# Altium footprint library PCB_PCB恒温加热台 copy_2022-02-27.PcbLib: 26 footprints (part 2 of 2)
Each footprint in its own frame and in the unit in brackets; x right, y up, seen from the top. Pads: shape width x height; smd on the part's side, far side on the other; paste and mask are expansions set on the pad; w line width, h text height; cw(c..) or ccw(c..) is an arc to the next point about the centre after c.
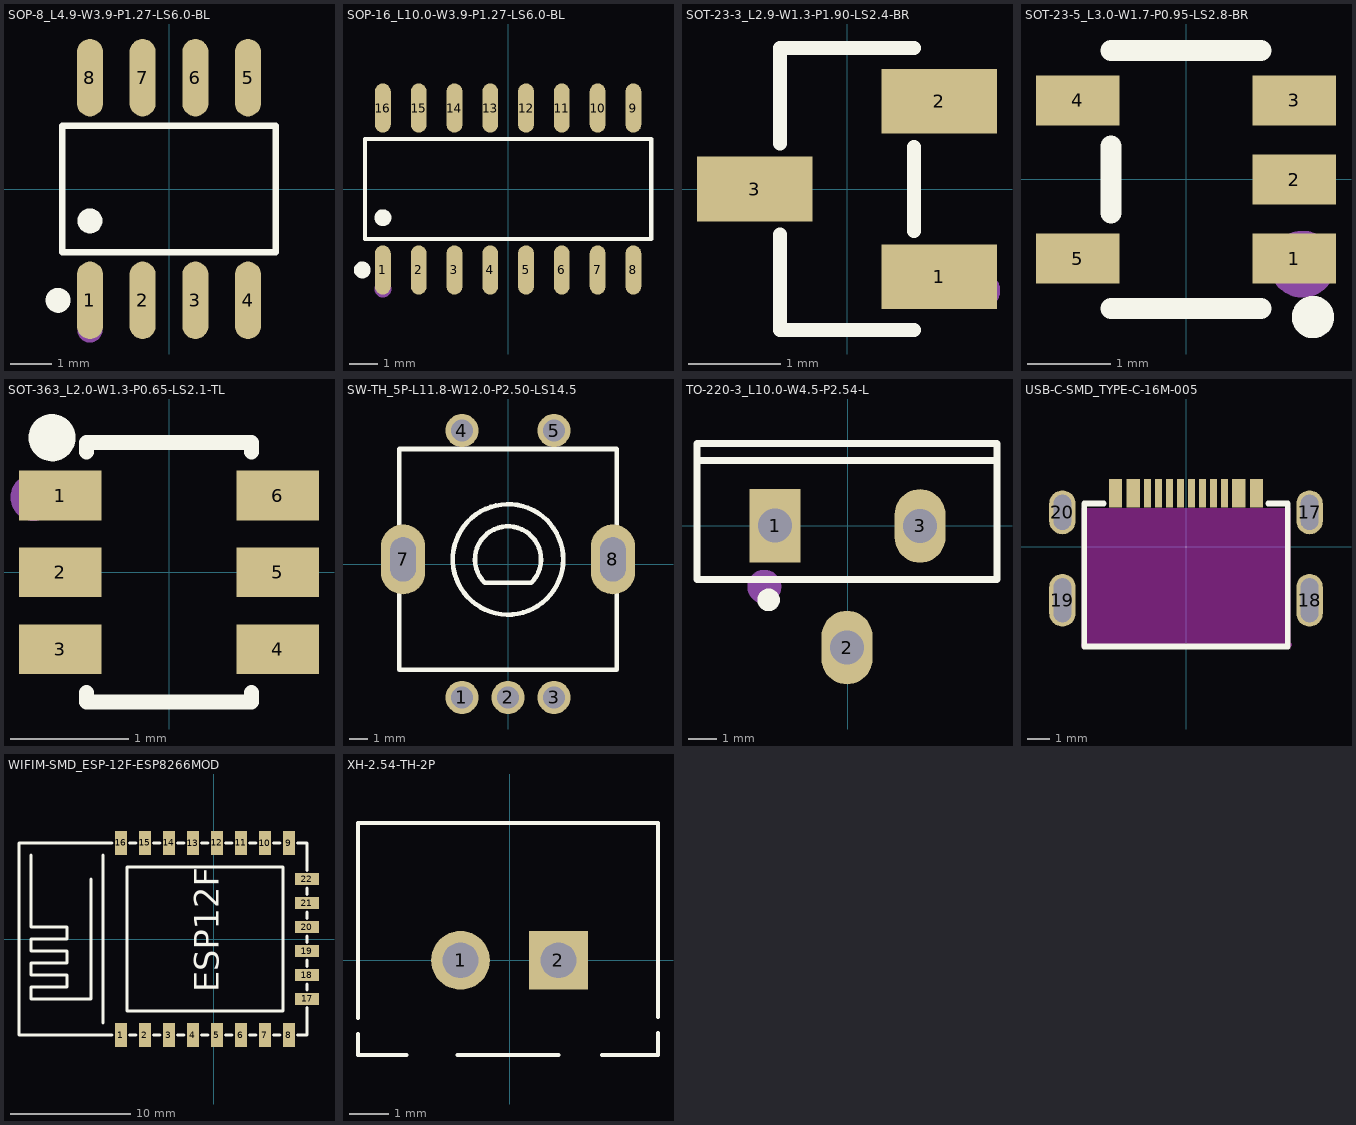
[diagram p1: the footprints below, top view; thin cyan lines are the x and y axes]

## SOP-8_L4.9-W3.9-P1.27-LS6.0-BL [mm]
pads (8):
  oval 0.63x1.865 smd: 1(-1.905,-2.682) 2(-0.635,-2.682) 3(0.635,-2.682) 4(1.905,-2.682) 5(1.905,2.682) 6(0.635,2.682) 7(-0.635,2.682) 8(-1.905,2.682)
Top Overlay:
  circle w0.3: c-2.672,-2.682 r0.15
  circle w0.3: c-1.905,-0.769 r0.15
  lines w0.152: -2.576,-1.521 2.576,-1.521 2.576,1.521 -2.576,1.521 -2.576,-1.521
Mechanical 15:
  circle w0.3: c-1.905,-3.4 r0.15

## SOP-16_L10.0-W3.9-P1.27-LS6.0-BL [mm]
pads (16):
  oval 0.56x1.745 smd: 1(-4.445,-2.873) 2(-3.175,-2.873) 3(-1.905,-2.873) 4(-0.635,-2.873) 5(0.635,-2.873) 6(1.905,-2.873) 7(3.175,-2.873) 8(4.445,-2.873) 9(4.445,2.873) 10(3.175,2.873) 11(1.905,2.873) 12(0.635,2.873) 13(-0.635,2.873) 14(-1.905,2.873) 15(-3.175,2.873) 16(-4.445,2.873)
Top Overlay:
  circle w0.3: c-5.177,-2.872 r0.15
  circle w0.3: c-4.445,-1.019 r0.15
  lines w0.152: -5.076,-1.771 5.076,-1.771 5.076,1.771 -5.076,1.771 -5.076,-1.771
Mechanical 15:
  circle w0.3: c-4.445,-3.55 r0.15

## SOT-23-3_L2.9-W1.3-P1.90-LS2.4-BR [mm]
pads (3):
  rect 1.25x0.7 smd: 1(1,-0.95) 2(1,0.95) 3(-1,0)
Top Overlay:
  lines w0.152: -0.726,-0.495 -0.726,-1.526 0.726,-1.526 ; -0.726,0.495 -0.726,1.526 0.726,1.526 ; 0.726,-0.455 0.726,0.455
Mechanical 15:
  circle w0.2: c1.46,-1.1 r0.1

## SOT-23-5_L3.0-W1.7-P0.95-LS2.8-BR [mm]
pads (5):
  rect 1x0.6 smd: 1(1.3,-0.95) 2(1.3,0) 3(1.3,0.95) 4(-1.3,0.95) 5(-1.3,-0.95)
Top Overlay:
  circle w0.254: c1.524,-1.651 r0.127
  lines w0.254: -0.9,-1.55 0.9,-1.55 ; -0.9,-0.4 -0.9,0.4 ; -0.9,1.55 0.9,1.55
Mechanical 15:
  circle w0.4: c1.397,-1.016 r0.2

## SOT-363_L2.0-W1.3-P0.65-LS2.1-TL [mm]
pads (6):
  rect 0.7x0.42 smd: 1(-0.92,0.65) 2(-0.92,0) 3(-0.92,-0.65) 4(0.92,-0.65) 5(0.92,0) 6(0.92,0.65)
Top Overlay:
  circle w0.2: c-0.99,1.14 r0.1
  lines w0.127: -0.7,-1.018 -0.7,-1.1 0.7,-1.1 0.7,-1.018 ; -0.7,1.018 -0.7,1.1 0.7,1.1 0.7,1.018
Mechanical 15:
  circle w0.2: c-1.143,0.635 r0.1

## SW-TH_5P-L11.8-W12.0-P2.50-LS14.5 [mm]
pads (7):
  round 1.8 hole 1.2: 1(-2.5,-7.25) 2(0,-7.25) 3(2.5,-7.25) 4(-2.5,7.25) 5(2.5,7.25)
  oval 2.4x3.8 hole 1.4 slot 2.4 at 90 deg: 7(-5.7,0.25) 8(5.7,0.25)
Top Overlay:
  circle w0.254: c0,0.25 r3
  lines w0.254: -5.9,-5.75 -5.9,6.25 5.9,6.25 5.9,-5.75 -5.9,-5.75 ; -1.27,-1.02 cw(c0,0.25) 1.27,-1.02 -1.27,-1.02

## TO-220-3_L10.0-W4.5-P2.54-L [mm]
pads (3):
  rect 1.8x2.6 hole 1.2: 1(-2.56,0.005)
  oval 1.8x2.6 hole 1.2: 2(-0.02,-4.305) 3(2.56,-0.005)
Top Overlay:
  lines w0.254: -5.32,2.305 5.28,2.305 ; -5.321,-1.894 -5.321,2.899 -5.321,2.904 5.281,2.904 5.281,-1.894 -5.321,-1.894
  lines w0.4: -2.79,-2.42 ccw(c-2.789,-2.62) -2.787,-2.42
Mechanical 15:
  circle w0.6: c-2.941,-2.154 r0.3

## USB-C-SMD_TYPE-C-16M-005 [mm]
pads (20):
  oval 1.2x2 hole 0.8 slot 1.6 at 90 deg: 17(5.62,1.563) 20(-5.62,1.563)
  oval 1.2x2.4 hole 0.8 slot 2 at 90 deg: 18(5.62,-2.437) 19(-5.62,-2.437)
  rect 0.3x1.3 smd: A1(-3.35,2.438) A4(-2.55,2.438) A5(-1.25,2.438) A6(-0.25,2.438) A7(0.25,2.438) A8(1.25,2.438) A9(2.55,2.438) A12(3.35,2.438) B1(3.05,2.438) B4(2.25,2.438) B5(1.75,2.438) B6(0.75,2.438) B7(-0.75,2.438) B8(-1.75,2.438) B9(-2.25,2.438) B12(-3.05,2.438)
Top Overlay:
  lines w0.254: -3.731,1.963 -4.62,1.963 -4.62,-4.537 4.62,-4.537 4.62,1.963 3.731,1.963
Keep-Out Layer:
  board cut-out: -4.75,-4.612 -4.75,1.738 4.75,1.738 4.75,-4.662
Keep-Out Layer:
  lines w0.254: -4.65,-4.45 4.7,-4.45

## WIFIM-SMD_ESP-12F-ESP8266MOD [mm]
pads (22):
  rect 1x2 smd: 1(-7.751,-8.002) 2(-5.751,-8.002) 3(-3.751,-8.002) 4(-1.751,-8.002) 5(0.249,-8.002) 6(2.249,-8.002) 7(4.249,-8.002) 8(6.249,-8.001) 9(6.249,7.999) 10(4.249,8) 11(2.249,8.002) 12(0.249,8.001) 13(-1.751,8) 14(-3.751,8.001) 15(-5.751,8) 16(-7.751,8.001)
  rect 2x1 smd: 17(7.75,-5) 18(7.749,-3.002) 19(7.749,-1.003) 20(7.749,0.998) 21(7.749,2.997) 22(7.75,4.997)
Top Overlay:
  lines w0.254: -15.251,6.998 -15.251,0.998 -12.251,0.998 -12.251,-0.002 -15.251,-0.002 -15.251,-1.002 -12.251,-1.002 -12.251,-2.002 -15.251,-2.002 -15.251,-3.002 -12.251,-3.002 -12.251,-4.002 -15.251,-4.002 -15.251,-5.002 -10.251,-5.002 -10.251,4.998 ; -9.251,-7.002 -9.251,6.998 ; -8.482,-8.002 -16.251,-8.002 -16.251,7.998 -8.482,7.998 ; -7.02,-8.002 -6.482,-8.002 ; -7.02,7.998 -6.482,7.998 ; -5.02,-8.002 -4.482,-8.002 ; -5.02,7.998 -4.482,7.998 ; -3.02,-8.002 -2.482,-8.002 ; -3.02,7.998 -2.482,7.998 ; -1.02,-8.002 -0.482,-8.002 ; -1.02,7.998 -0.482,7.998 ; 0.98,-8.002 1.518,-8.002 ; 0.98,7.998 1.518,7.998 ; 2.98,-8.002 3.518,-8.002 ; 2.98,7.998 3.518,7.998 ; 4.98,-8.002 5.518,-8.002 ; 4.98,7.998 5.518,7.998 ; 6.98,-8.002 7.749,-8.002 7.749,-5.731 ; 6.98,7.998 7.749,7.998 7.749,5.728 ; 7.749,-4.269 7.749,-3.733 ; 7.749,-2.271 7.749,-1.734 ; 7.749,-0.272 7.749,0.266 ; 7.749,1.729 7.749,2.266 ; 7.749,3.728 7.749,4.266 ; -7.251,-6.002 -7.251,5.998 5.749,5.998 5.749,-6.002 -7.251,-6.002
  text "ESP12F" at 0.381,-4.445 h2.03

## XH-2.54-TH-2P [mm]
pads (2):
  round 1.5 hole 0.9 slot 0.905 at 0 deg: 1(-1.25,0)
  rect 1.5x1.5 hole 0.9 slot 0.905 at 0 deg: 2(1.25,0)
Top Overlay:
  lines w0.102: -3.869,-1.88 -3.869,-2.413 -2.624,-2.413 ; -3.869,-1.473 -3.869,3.5 3.792,3.5 3.792,-1.448 ; -1.329,-2.413 1.252,-2.413 ; 2.356,-2.413 3.792,-2.413 3.792,-1.854